# Altium footprint library PCB_training_Project.PcbLib: 13 footprints
Each footprint in its own frame and in the unit in brackets; x right, y up, seen from the top. Pads: shape width x height; smd on the part's side, far side on the other; paste and mask are expansions set on the pad; w line width, h text height; cw(c..) or ccw(c..) is an arc to the next point about the centre after c.
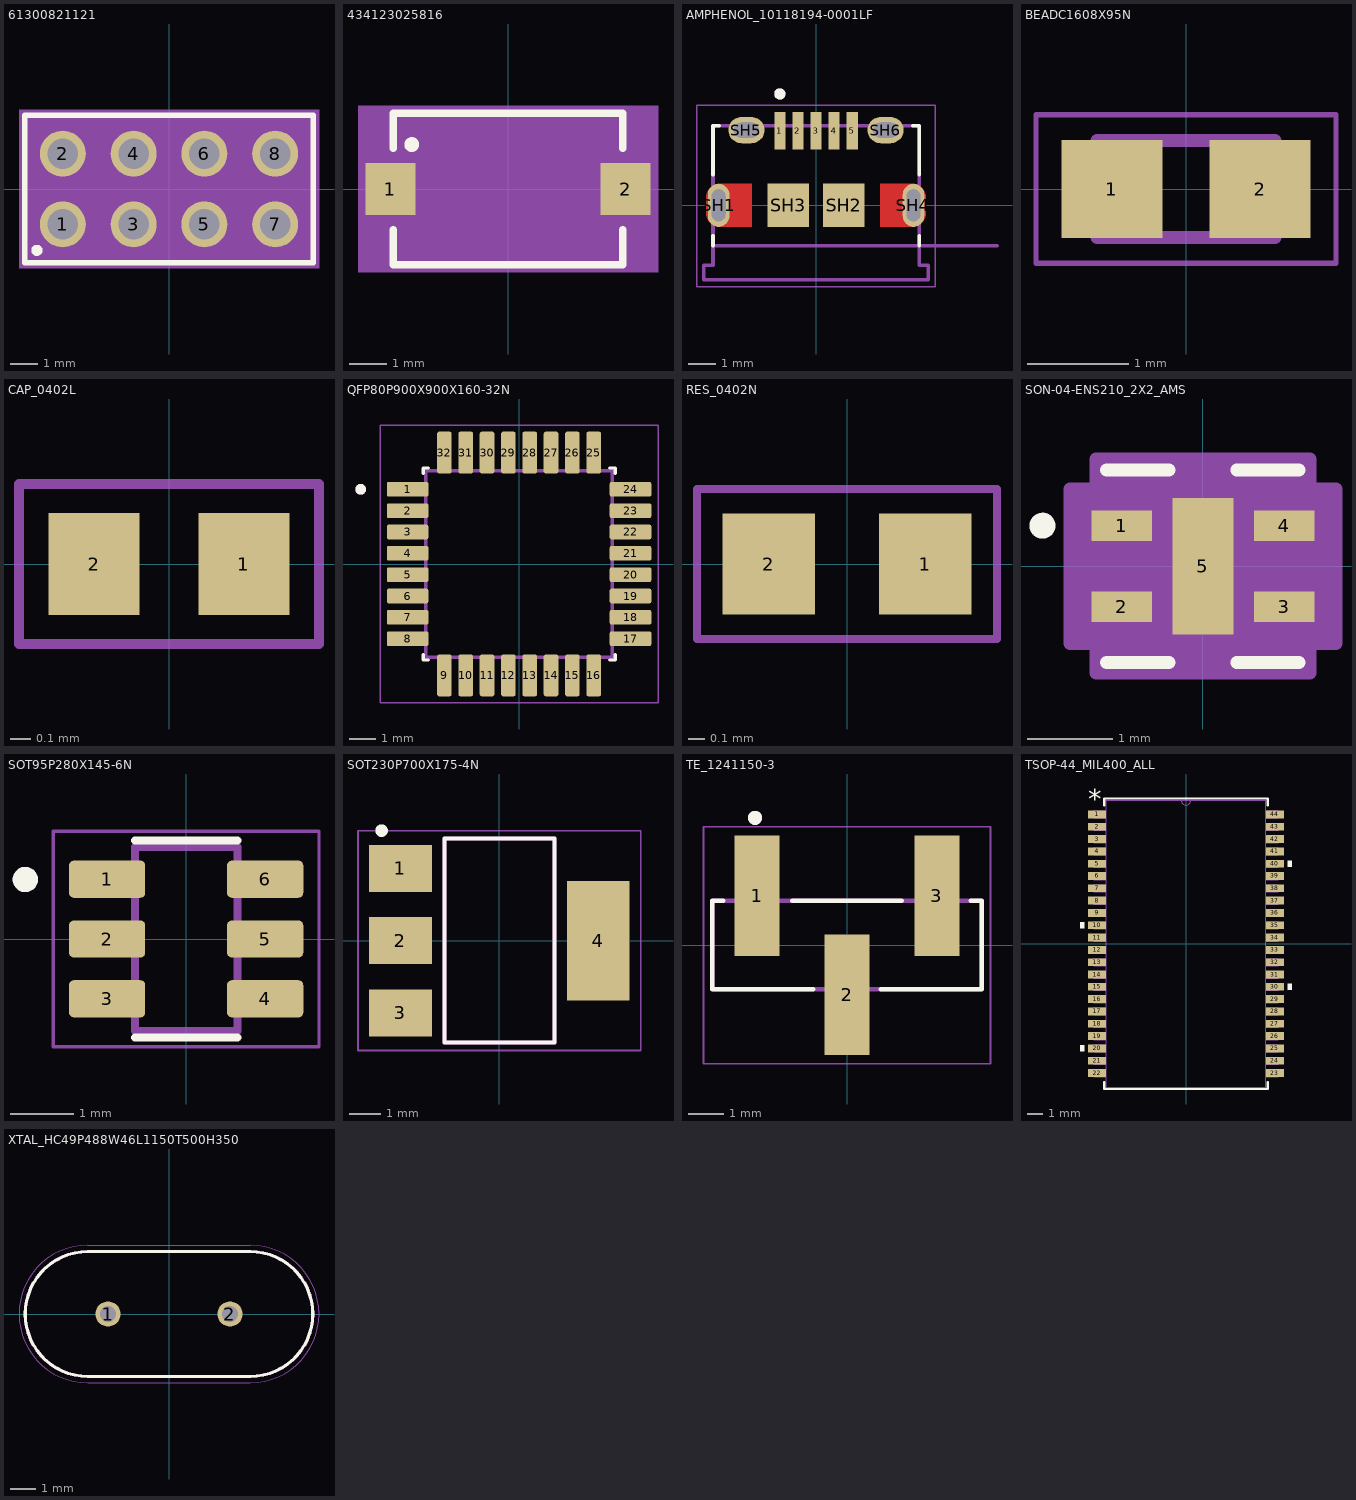
[diagram p0: the footprints below, top view; thin cyan lines are the x and y axes]

## 61300821121 [mm]
pads (8):
  round 1.65 hole 1.1: 1(-3.81,-1.27) 2(-3.81,1.27) 3(-1.27,-1.27) 4(-1.27,1.27) 5(1.27,-1.27) 6(1.27,1.27) 7(3.81,-1.27) 8(3.81,1.27)
Top Overlay:
  circle w0.2: c-4.74,-2.2 r0.1
  lines w0.2: -5.18,-2.64 5.18,-2.64 5.18,2.64 -5.18,2.64 -5.18,-2.64
Mechanical 13:
  lines w0.1: -5.08,-2.54 5.08,-2.54 5.08,2.54 -5.08,2.54 -5.08,-2.54
Mechanical 15:
  region: 5.38,-2.84 -5.38,-2.84 -5.38,2.84 5.38,2.84
3D body "step_temp.STEP": height 8.54, standoff -3, extent -4.953,-2.54 5.207,2.54

## 434123025816 [mm]
pads (2):
  rect 1.35x1.4 smd paste+0 mask+0.102: 1(-3.175,0) 2(3.175,0)
Top Overlay:
  circle w0.2: c-2.6,1.2 r0.1
  lines w0.2: -3.1,-1.1 -3.1,-2.05 3.1,-2.05 3.1,-1.1 ; -3.1,1.1 -3.1,2.05 3.1,2.05 3.1,1.1
Mechanical 13:
  lines w0.1: -3,-1.95 -3,1.95 3,1.95 3,-1.95 -3,-1.95
Mechanical 15:
  region: 4.05,-2.25 -4.05,-2.25 -4.05,2.25 4.05,2.25
3D body "step_temp.STEP": height 2.5, standoff 0, extent -3.5,-1.95 3.5,1.95

## AMPHENOL_10118194-0001LF [mm]
pads (11):
  rect 0.4x1.35 smd: 1(-1.3,2.675) 2(-0.65,2.675) 3(0,2.675) 4(0.65,2.675) 5(1.3,2.675)
  oval 0.775x1.55 hole 0.5 slot 1.15 at 90 deg mask+0: SH1(-3.5,0) SH4(3.5,0)
  rect 1.5x1.55 smd: SH2(1,0) SH3(-1,0)
  oval 1.3x0.95 hole 0.55 slot 0.9 at 0 deg: SH5(-2.5,2.7) SH6(2.5,2.7)
Top Layer:
  region: 3.471,0.774 3.497,0.772 3.523,0.769 3.549,0.764 3.574,0.758 3.6,0.751 3.624,0.742 3.648,0.732 3.672,0.721 3.695,0.708 3.717,0.694 3.739,0.68 3.76,0.664 3.78,0.647 3.799,0.629 3.817,0.61 3.834,0.59 3.85,0.569 3.864,0.547 3.878,0.525 3.891,0.502 3.902,0.478 3.912,0.454 3.921,0.43 3.928,0.404 3.934,0.379 3.939,0.353 3.942,0.327 3.944,0.301 3.945,0.275 3.945,-0.275 3.944,-0.301 3.942,-0.327 3.939,-0.353 3.934,-0.379 3.928,-0.404 3.921,-0.43 3.912,-0.454 3.902,-0.478 3.891,-0.502 3.878,-0.525 3.864,-0.547 3.85,-0.569 3.834,-0.59 3.817,-0.61 3.799,-0.629 3.78,-0.647 3.76,-0.664 3.739,-0.68 3.717,-0.694 3.695,-0.708 3.672,-0.721 3.648,-0.732 3.624,-0.742 3.6,-0.751 3.574,-0.758 3.549,-0.764 3.523,-0.769 3.497,-0.772 3.471,-0.774 3.445,-0.775 2.3,-0.775 2.3,0.775 3.445,0.775
  region: -2.3,-0.775 -3.445,-0.775 -3.471,-0.774 -3.497,-0.772 -3.523,-0.769 -3.549,-0.764 -3.574,-0.758 -3.6,-0.751 -3.624,-0.742 -3.648,-0.732 -3.672,-0.721 -3.695,-0.708 -3.717,-0.694 -3.739,-0.68 -3.76,-0.664 -3.78,-0.647 -3.799,-0.629 -3.817,-0.61 -3.834,-0.59 -3.85,-0.569 -3.864,-0.547 -3.878,-0.525 -3.891,-0.502 -3.902,-0.478 -3.912,-0.454 -3.921,-0.43 -3.928,-0.404 -3.934,-0.379 -3.939,-0.353 -3.942,-0.327 -3.944,-0.301 -3.945,-0.275 -3.945,0.275 -3.944,0.301 -3.942,0.327 -3.939,0.353 -3.934,0.379 -3.928,0.404 -3.921,0.43 -3.912,0.454 -3.902,0.478 -3.891,0.502 -3.878,0.525 -3.864,0.547 -3.85,0.569 -3.834,0.59 -3.817,0.61 -3.799,0.629 -3.78,0.647 -3.76,0.664 -3.739,0.68 -3.717,0.694 -3.695,0.708 -3.672,0.721 -3.648,0.732 -3.624,0.742 -3.6,0.751 -3.574,0.758 -3.549,0.764 -3.523,0.769 -3.497,0.772 -3.471,0.774 -3.445,0.775 -2.3,0.775
Top Overlay:
  circle w0.2: c-1.3,4 r0.1
  lines w0.127: -3.7,-1.45 -3.7,-1.1 ; -3.7,1.1 -3.7,2.85 -3.47,2.85 ; 3.47,2.85 3.7,2.85 3.7,1.1 ; 3.7,-1.45 3.7,-1.1
Top Paste:
  region: 3.471,0.774 3.497,0.772 3.523,0.769 3.549,0.764 3.574,0.758 3.6,0.751 3.624,0.742 3.648,0.732 3.672,0.721 3.695,0.708 3.717,0.694 3.739,0.68 3.76,0.664 3.78,0.647 3.799,0.629 3.817,0.61 3.834,0.59 3.85,0.569 3.864,0.547 3.878,0.525 3.891,0.502 3.902,0.478 3.912,0.454 3.921,0.43 3.928,0.404 3.934,0.379 3.939,0.353 3.942,0.327 3.944,0.301 3.945,0.275 3.945,-0.275 3.944,-0.301 3.942,-0.327 3.939,-0.353 3.934,-0.379 3.928,-0.404 3.921,-0.43 3.912,-0.454 3.902,-0.478 3.891,-0.502 3.878,-0.525 3.864,-0.547 3.85,-0.569 3.834,-0.59 3.817,-0.61 3.799,-0.629 3.78,-0.647 3.76,-0.664 3.739,-0.68 3.717,-0.694 3.695,-0.708 3.672,-0.721 3.648,-0.732 3.624,-0.742 3.6,-0.751 3.574,-0.758 3.549,-0.764 3.523,-0.769 3.497,-0.772 3.471,-0.774 3.445,-0.775 2.3,-0.775 2.3,0.775 3.445,0.775
  region: -2.3,-0.775 -3.445,-0.775 -3.471,-0.774 -3.497,-0.772 -3.523,-0.769 -3.549,-0.764 -3.574,-0.758 -3.6,-0.751 -3.624,-0.742 -3.648,-0.732 -3.672,-0.721 -3.695,-0.708 -3.717,-0.694 -3.739,-0.68 -3.76,-0.664 -3.78,-0.647 -3.799,-0.629 -3.817,-0.61 -3.834,-0.59 -3.85,-0.569 -3.864,-0.547 -3.878,-0.525 -3.891,-0.502 -3.902,-0.478 -3.912,-0.454 -3.921,-0.43 -3.928,-0.404 -3.934,-0.379 -3.939,-0.353 -3.942,-0.327 -3.944,-0.301 -3.945,-0.275 -3.945,0.275 -3.944,0.301 -3.942,0.327 -3.939,0.353 -3.934,0.379 -3.928,0.404 -3.921,0.43 -3.912,0.454 -3.902,0.478 -3.891,0.502 -3.878,0.525 -3.864,0.547 -3.85,0.569 -3.834,0.59 -3.817,0.61 -3.799,0.629 -3.78,0.647 -3.76,0.664 -3.739,0.68 -3.717,0.694 -3.695,0.708 -3.672,0.721 -3.648,0.732 -3.624,0.742 -3.6,0.751 -3.574,0.758 -3.549,0.764 -3.523,0.769 -3.497,0.772 -3.471,0.774 -3.445,0.775 -2.3,0.775
Top Solder:
  region: 3.476,0.874 3.508,0.872 3.539,0.868 3.57,0.862 3.6,0.855 3.63,0.846 3.66,0.835 3.689,0.823 3.717,0.81 3.745,0.795 3.772,0.778 3.798,0.76 3.823,0.741 3.846,0.721 3.869,0.699 3.891,0.676 3.911,0.653 3.93,0.628 3.948,0.602 3.965,0.575 3.98,0.547 3.993,0.519 4.005,0.49 4.016,0.46 4.025,0.43 4.032,0.4 4.038,0.369 4.042,0.338 4.044,0.306 4.045,0.275 4.045,-0.275 4.044,-0.306 4.042,-0.338 4.038,-0.369 4.032,-0.4 4.025,-0.43 4.016,-0.46 4.005,-0.49 3.993,-0.519 3.98,-0.547 3.965,-0.575 3.948,-0.602 3.93,-0.628 3.911,-0.653 3.891,-0.676 3.869,-0.699 3.846,-0.721 3.823,-0.741 3.798,-0.76 3.772,-0.778 3.745,-0.795 3.717,-0.81 3.689,-0.823 3.66,-0.835 3.63,-0.846 3.6,-0.855 3.57,-0.862 3.539,-0.868 3.508,-0.872 3.476,-0.874 3.445,-0.875 2.2,-0.875 2.2,0.875 3.445,0.875
  region: -2.2,-0.875 -3.445,-0.875 -3.476,-0.874 -3.508,-0.872 -3.539,-0.868 -3.57,-0.862 -3.6,-0.855 -3.63,-0.846 -3.66,-0.835 -3.689,-0.823 -3.717,-0.81 -3.745,-0.795 -3.772,-0.778 -3.798,-0.76 -3.823,-0.741 -3.846,-0.721 -3.869,-0.699 -3.891,-0.676 -3.911,-0.653 -3.93,-0.628 -3.948,-0.602 -3.965,-0.575 -3.98,-0.547 -3.993,-0.519 -4.005,-0.49 -4.016,-0.46 -4.025,-0.43 -4.032,-0.4 -4.038,-0.369 -4.042,-0.338 -4.044,-0.306 -4.045,-0.275 -4.045,0.275 -4.044,0.306 -4.042,0.338 -4.038,0.369 -4.032,0.4 -4.025,0.43 -4.016,0.46 -4.005,0.49 -3.993,0.519 -3.98,0.547 -3.965,0.575 -3.948,0.602 -3.93,0.628 -3.911,0.653 -3.891,0.676 -3.869,0.699 -3.846,0.721 -3.823,0.741 -3.798,0.76 -3.772,0.778 -3.745,0.795 -3.717,0.81 -3.689,0.823 -3.66,0.835 -3.63,0.846 -3.6,0.855 -3.57,0.862 -3.539,0.868 -3.508,0.872 -3.476,0.874 -3.445,0.875 -2.2,0.875
Bottom Solder:
  drawing of 2 lines, arcs and shapes, not listed
Mechanical 13:
  circle w0.2: c-1.3,4 r0.1
  lines w0.127: 6.5,-1.45 -3.7,-1.45 ; -3.7,-1.45 -3.7,2.85 3.7,2.85 3.7,-2.15 4.025,-2.15 4.025,-2.68 -4.025,-2.68 -4.025,-2.15 -3.7,-2.15 -3.7,-1.45
  text "PCB EDGE" at 4.25,-1.25 h0.81
Mechanical 15:
  lines w0.05: -4.275,-2.93 4.275,-2.93 4.275,3.6 -4.275,3.6 -4.275,-2.93
3D body "step_temp.STEP": height 2.67, standoff -0.6, extent -4.025,-2.68 4.025,2.85

## BEADC1608X95N [mm]
pads (2):
  rect 1x0.97 smd: 1(-0.735,0) 2(0.735,0)
Mechanical 13:
  lines w0.127: -0.88,-0.48 0.88,-0.48 0.88,0.48 -0.88,0.48 -0.88,-0.48
Mechanical 15:
  lines w0.05: -1.485,-0.735 1.485,-0.735 1.485,0.735 -1.485,0.735 -1.485,-0.735
3D body "step_temp.STEP": height 0.95, standoff 0, extent -0.8,-0.4 0.8,0.4

## CAP_0402L [mil]
pads (2):
  rect 18x20 smd: 1(14.76,0) 2(-14.76,0)
Top Assembly:
  lines w1.97: -29.53,-15.75 29.53,-15.75 29.53,15.75 -29.53,15.75 -29.53,-15.75
  text "'.Designator'" at 13.78,5.91 h19.68
3D body "User Library-User Library-cap0402_cap0402_body.STEP": height 19.09, standoff -0.2, extent -19.68,-9.84 19.69,9.85

## QFP80P900X900X160-32N [mm]
height 1.6
pads (32):
  rrect25% 1.56x0.55 smd paste+0 mask+0.102: 1(-4.18,2.8) 2(-4.18,2) 3(-4.18,1.2) 4(-4.18,0.4) 5(-4.18,-0.4) 6(-4.18,-1.2) 7(-4.18,-2) 8(-4.18,-2.8) 17(4.18,-2.8) 18(4.18,-2) 19(4.18,-1.2) 20(4.18,-0.4) 21(4.18,0.4) 22(4.18,1.2) 23(4.18,2) 24(4.18,2.8)
  rrect25% 0.55x1.56 smd paste+0 mask+0.102: 9(-2.8,-4.18) 10(-2,-4.18) 11(-1.2,-4.18) 12(-0.4,-4.18) 13(0.4,-4.18) 14(1.2,-4.18) 15(2,-4.18) 16(2.8,-4.18) 25(2.8,4.18) 26(2,4.18) 27(1.2,4.18) 28(0.4,4.18) 29(-0.4,4.18) 30(-1.2,4.18) 31(-2,4.18) 32(-2.8,4.18)
Top Overlay:
  circle w0.2: c-5.94,2.8 r0.1
  lines w0.127: -3.6,-3.395 -3.6,-3.6 -3.395,-3.6 ; -3.6,3.395 -3.6,3.6 -3.395,3.6 ; 3.395,-3.6 3.6,-3.6 3.6,-3.395 ; 3.395,3.6 3.6,3.6 3.6,3.395
Mechanical 13:
  circle w0.2: c-5.94,2.8 r0.1
  lines w0.127: -3.5,-3.5 3.5,-3.5 3.5,3.5 -3.5,3.5 -3.5,-3.5
Mechanical 15:
  lines w0.05: -5.21,-5.21 5.21,-5.21 5.21,5.21 -5.21,5.21 -5.21,-5.21
3D body "step_temp.STEP": height 1.6, standoff 0, extent -4.5,-4.5 4.5,4.5

## RES_0402N [mm]
pads (2):
  rect 0.57x0.62 smd: 1(0.48,0) 2(-0.48,0)
Top Assembly:
  lines w0.05: -0.92,-0.46 0.92,-0.46 0.92,0.46 -0.92,0.46 -0.92,-0.46
  text "'.Designator'" at 0.5,0.2 h0.5
3D body "User Library-RESC1005X04N.STEP": height 0.35, standoff 0, extent -0.5,-0.25 0.5,0.25

## SON-04-ENS210_2X2_AMS [mil]
pads (5):
  rect 28x14 smd paste+0 mask+0: 1(-37.5,18.7) 2(-37.5,-18.7) 3(37.5,-18.7) 4(37.5,18.7)
  rect 28x63 smd paste+0 mask+0: 5(0,0)
Top Overlay:
  circle w6: c-74.2,18.7 r3
  lines w6: -44.5,-44.5 -15.62,-44.5 ; -44.5,44.5 -15.62,44.5 ; 15.62,-44.5 44.5,-44.5 ; 15.62,44.5 44.5,44.5
Mechanical 13:
  lines w0: -12,39.5 ccw(c0,39.5) 12,39.5
  lines w1: -39.5,-39.5 39.5,-39.5 39.5,39.5 -39.5,39.5 -39.5,-39.5
Mechanical 15:
  region: -49.5,-35.7 -61.5,-35.7 -61.5,35.7 -49.5,35.7 -49.5,49.5 49.5,49.5 49.5,35.7 61.5,35.7 61.5,-35.7 49.5,-35.7 49.5,-49.5 -49.5,-49.5
  lines w6: -61.5,-35.7 -61.5,35.7 -49.5,35.7 -49.5,49.5 49.5,49.5 49.5,35.7 61.5,35.7 61.5,-35.7 49.5,-35.7 49.5,-49.5 -49.5,-49.5 -49.5,-35.7 -61.5,-35.7
3D body "SON-04-ENS210_2X2_AMS.step": height 32.09, standoff 0, extent -39.49,-39.49 39.49,39.49

## SOT95P280X145-6N [mm]
pads (6):
  rrect25% 1.21x0.59 smd: 1(-1.255,0.95) 2(-1.255,0) 3(-1.255,-0.95) 4(1.255,-0.95) 5(1.255,0) 6(1.255,0.95)
Top Overlay:
  circle w0.2: c-2.555,0.945 r0.1
  lines w0.127: -0.813,-1.565 0.813,-1.565 ; -0.813,1.565 0.813,1.565
Mechanical 13:
  circle w0.2: c-2.555,0.945 r0.1
  lines w0.127: -0.813,-1.462 0.813,-1.462 0.813,1.462 -0.813,1.462 -0.813,-1.462
Mechanical 15:
  lines w0.05: -2.11,-1.713 -2.11,1.713 2.11,1.713 2.11,-1.713 -2.11,-1.713
3D body "step_temp.STEP": height 1.42, standoff -0.03, extent -1.4,-1.462 1.4,1.462

## SOT230P700X175-4N [mm]
pads (4):
  rect 2x1.5 smd paste+0 mask+0.102: 1(-3.15,2.3) 2(-3.15,0) 3(-3.15,-2.3)
  rect 2x3.8 smd paste+0 mask+0.102: 4(3.15,0)
Top Overlay:
  circle w0.2: c-3.75,3.5 r0.1
  lines w0.127: -1.75,-3.25 1.75,-3.25 1.75,3.25 -1.75,3.25 -1.75,-3.25
Mechanical 13:
  lines w0.127: -1.75,-3.25 1.75,-3.25 1.75,3.25 -1.75,3.25 -1.75,-3.25
Mechanical 15:
  lines w0.05: -4.5,-3.5 4.5,-3.5 4.5,3.5 -4.5,3.5 -4.5,-3.5
3D body "step_temp.STEP": height 1.57, standoff -0.08, extent -3.5,-3.452 3.5,3.048

## TE_1241150-3 [mm]
pads (3):
  rect 1.27x3.4 smd: 1(-2.54,1.4) 2(0,-1.4) 3(2.54,1.4)
Top Overlay:
  circle w0.2: c-2.6,3.6 r0.1
  lines w0.127: -3.5,1.25 -3.81,1.25 -3.81,-1.25 -0.95,-1.25 ; -1.55,1.25 1.55,1.25 ; 0.95,-1.25 3.81,-1.25 3.81,1.25 3.5,1.25
Mechanical 13:
  circle w0.2: c-2.6,3.6 r0.1
  lines w0.127: -3.81,-1.25 3.81,-1.25 3.81,1.25 -3.81,1.25 -3.81,-1.25
Mechanical 15:
  lines w0.05: -4.06,-3.35 4.06,-3.35 4.06,3.35 -4.06,3.35 -4.06,-3.35

## TSOP-44_MIL400_ALL [mil]
pads (44):
  rect 46.5x20 smd paste+0 mask+0: 1(-227.25,330.71) 2(-227.25,299.21) 3(-227.25,267.72) 4(-227.25,236.22) 5(-227.25,204.72) 6(-227.25,173.23) 7(-227.25,141.73) 8(-227.25,110.24) 9(-227.25,78.74) 10(-227.25,47.24) 11(-227.25,15.75) 12(-227.25,-15.75) 13(-227.25,-47.24) 14(-227.25,-78.74) 15(-227.25,-110.24) 16(-227.25,-141.73) 17(-227.25,-173.23) 18(-227.25,-204.72) 19(-227.25,-236.22) 20(-227.25,-267.72) 21(-227.25,-299.21) 22(-227.25,-330.71) 23(227.25,-330.71) 24(227.25,-299.21) 25(227.25,-267.72) 26(227.25,-236.22) 27(227.25,-204.72) 28(227.25,-173.23) 29(227.25,-141.73) 30(227.25,-110.24) 31(227.25,-78.74) 32(227.25,-47.24) 33(227.25,-15.75) 34(227.25,15.75) 35(227.25,47.24) 36(227.25,78.74) 37(227.25,110.24) 38(227.25,141.73) 39(227.25,173.23) 40(227.25,204.72) 41(227.25,236.22) 42(227.25,267.72) 43(227.25,299.21) 44(227.25,330.71)
Top Overlay:
  region: 260.5,212.22 270.5,212.22 270.5,197.22 260.5,197.22
  region: 260.5,-102.74 270.5,-102.74 270.5,-117.74 260.5,-117.74
  region: -260.5,-260.22 -270.5,-260.22 -270.5,-275.22 -260.5,-275.22
  region: -260.5,54.74 -270.5,54.74 -270.5,39.74 -260.5,39.74
  lines w6: -209,-353.81 -209,-371.5 209,-371.5 209,-353.81 ; -209,353.81 -209,371.5 209,371.5 209,353.81
  text ".Designator" at -137.5,-25 h50
  text "*" at -249.75,345.71 h50
Mechanical 13:
  drawing of 181 lines, arcs and shapes, not listed
  text "*" at -201.5,313.5 h50
  text ".Designator" at -137.5,-25 h50
3D body "TSOP-44_MIL400_ALL.step": height 47.09, standoff 0, extent -236.5,-366.5 236.5,366.5

## XTAL_HC49P488W46L1150T500H350 [mm]
pads (2):
  round 1.007 hole 0.657: 1(-2.44,0) 2(2.44,0)
Top Overlay:
  lines w0.127: -5.75,0 cw(c-3.25,0) -3.25,2.5 3.25,2.5 cw(c3.25,0) 5.75,0 cw(c3.25,0) 3.25,-2.5 -3.25,-2.5 cw(c-3.25,0) -5.75,0
Mechanical 13:
  lines w0.127: -5.75,0 cw(c-3.25,0) -3.25,2.5 3.25,2.5 cw(c3.25,0) 5.75,0 cw(c3.25,0) 3.25,-2.5 -3.25,-2.5 cw(c-3.25,0) -5.75,0
Mechanical 15:
  lines w0.05: -6,0 cw(c-3.25,0) -3.25,2.75 3.25,2.75 cw(c3.25,0) 6,0 cw(c3.25,0) 3.25,-2.75 -3.25,-2.75 cw(c-3.25,0) -6,0
3D body "step_temp.STEP": height 3.25, standoff -5.75, extent -5.75,-2.5 5.75,2.5